# Altium schematic symbol library W5500.SchLib: 1 symbol
Pins are listed as number, name and electrical type; pins without a type are passive.

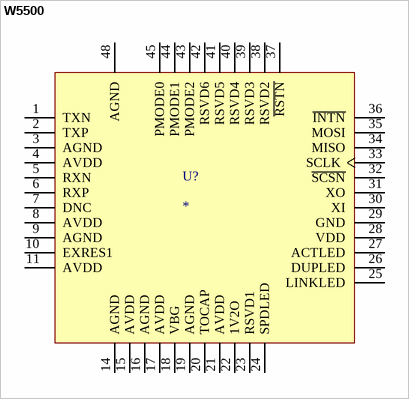
[diagram p0: symbol W5500]

## W5500
designator U?
Hardwired TCP/IP embedded Ethernet controller; MP: W5500; Availability: Unavailable; Value: *; Price: None; Package: None
footprint QFP50P900X900X160-48N
pins: 1 TXN, 2 TXP, 3 AGND, 4 AVDD, 5 RXN, 6 RXP, 7 DNC, 8 AVDD, 9 AGND, 10 EXRES1, 11 AVDD, 14 AGND, 15 AVDD, 16 AGND, 17 AVDD, 18 VBG, 19 AGND, 20 TOCAP, 21 AVDD, 22 1V2O, 23 RSVD1, 24 SPDLED, 25 LINKLED, 26 DUPLED, 27 ACTLED, 28 VDD, 29 GND, 30 XI, 31 XO, 32 ~{SCSN}, 33 SCLK, 34 MISO, 35 MOSI, 36 ~{INTN}, 37 ~{RSTN}, 38 RSVD2, 39 RSVD3, 40 RSVD4, 41 RSVD5, 42 RSVD6, 43 PMODE2, 44 PMODE1, 45 PMODE0, 48 AGND